# EAGLE library part 5VLX110FF676 (library xilinx_spartan3_virtex4_and_5)
Xilinx FPGA
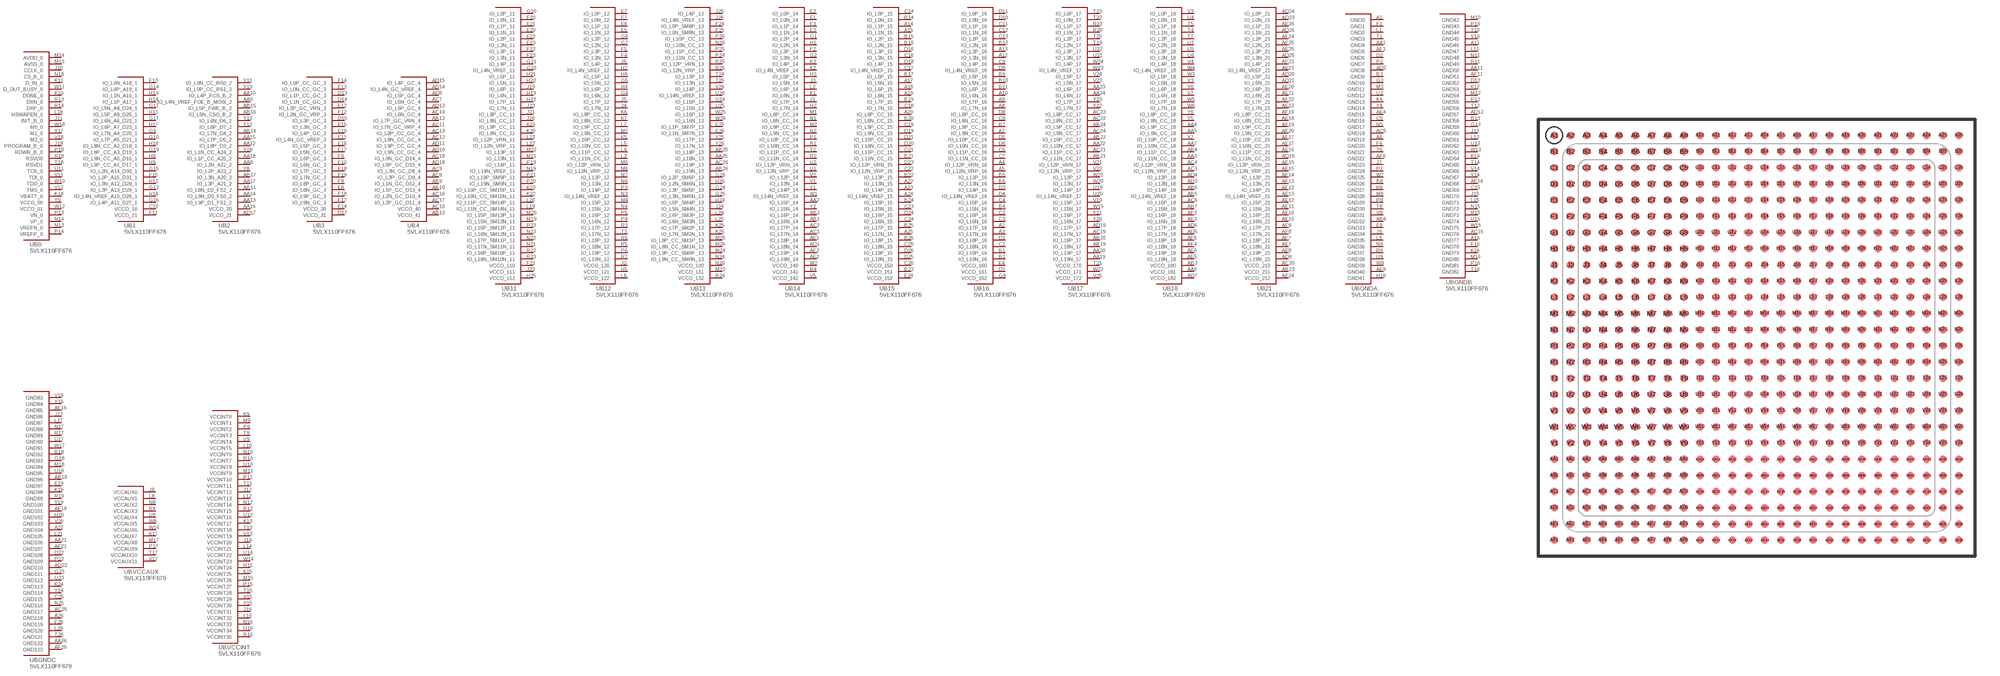
[diagram p98: symbol with the pads of FF676; footprint FF676]

Designator prefix U; gates B0=5VLX110FF676_0 B1=5VLX110FF676_1 B2=5VLX110FF676_2 B3=5VLX110FF676_3 B4=5VLX110FF676_4 B11=5VLX110FF676_11 B12=5VLX110FF676_12 B13=5VLX110FF676_13 B14=5VLX110FF676_14 B15=5VLX110FF676_15 B16=5VLX110FF676_16 B17=5VLX110FF676_17 B18=5VLX110FF676_18 B21=5VLX110FF676_21 BGNDA=5VLX110FF676_GNDA BGNDB=5VLX110FF676_GNDB BGNDC=5VLX110FF676_GNDC BVCCAUX=5VLX110FF676_VCCAUX BVCCINT=5VLX110FF676_VCCINT

## 5VLX110FF676  [FF676]
A1  BGNDA:GND0  pas
A2  B16:IO_L17P_16
A3  B16:IO_L17N_16
A4  B16:IO_L12P_VRN_16
A5  B16:IO_L12N_VRP_16
A6  BGNDA:GND19  pas
A7  B16:IO_L9N_CC_16
A8  B16:IO_L7N_16
A9  B16:IO_L7P_16
A10  B16:IO_L6N_16
A11  BGNDB:GND46  pas
A12  B16:IO_L3N_16
A13  B16:IO_L3P_16
A14  B15:IO_L1P_15
A15  B15:IO_L1N_15
A16  BGNDB:GND77  pas
A17  B15:IO_L5N_15
A18  B15:IO_L6P_15
A19  B15:IO_L6N_15
A20  B15:IO_L8P_CC_15
A21  BGNDC:GND104  pas
A22  B15:IO_L13N_15
A23  B15:IO_L14P_15
A24  B15:IO_L14N_VREF_15
A25  B15:IO_L17N_15
A26  BGNDC:GND118  pas
AA1  BGNDA:GND4  pas
AA2  B14:IO_L15P_14
AA3  B18:IO_L11N_CC_18
AA4  B18:IO_L9P_CC_18
AA5  B18:IO_L9N_CC_18
AA6  B18:VCCO_181  pas
AA7  B18:IO_L10N_CC_18
AA8  B2:IO_L2N_A22_2
AA9  B2:IO_L4N_VREF_FOE_B_MOSI_2
AA10  B2:IO_L4P_FCS_B_2
AA11  BGNDB:GND50  pas
AA12  B2:IO_L8P_D3_2
AA13  B2:IO_L9P_D1_FS1_2
AA14  B2:IO_L9N_D0_FS0_2
AA15  B2:IO_L7P_D5_2
AA16  B2:VCCO_20  pas
AA17  B2:IO_L3P_A21_2
AA18  B2:IO_L1P_CC_A25_2
AA19  B17:IO_L19N_17
AA20  B17:IO_L19P_17
AA21  BGNDC:GND106  pas
AA22  B17:IO_L10N_CC_17
AA23  B17:IO_L6P_17
AA24  B17:IO_L6N_17
AA25  B13:IO_L18N_13
AA26  BGNDC:GND122  pas
AB1  B14:IO_L16N_14
AB2  B14:IO_L16P_14
AB3  B18:VCCO_180  pas
AB4  B18:IO_L11P_CC_18
AB5  B18:IO_L14N_VREF_18
AB6  B18:IO_L14P_18
AB7  B18:IO_L15N_18
AB8  BGNDA:GND32  pas
AB9  B4:IO_L1N_GC_D12_4
AB10  B4:IO_L1P_GC_D13_4
AB11  B2:IO_L8N_D2_FS2_2
AB12  B4:IO_L7P_GC_VRN_4
AB13  B4:VCCO_41  pas
AB14  B2:IO_L7N_D4_2
AB15  B2:IO_L5P_FWE_B_2
AB16  B2:IO_L5N_CSO_B_2
AB17  B2:IO_L3N_A20_2
AB18  BGNDC:GND96  pas
AB19  B17:IO_L18N_17
AB20  B17:IO_L18P_17
AB21  B17:IO_L11N_CC_17
AB22  B17:IO_L10P_CC_17
AB23  B21:VCCO_211  pas
AB24  B17:IO_L9P_CC_17
AB25  B13:IO_L18P_13
AB26  B13:IO_L19N_13
AC1  B14:IO_L17N_14
AC2  B14:IO_L17P_14
AC3  B18:IO_L12N_VRP_18
AC4  B18:IO_L12P_VRN_18
AC5  BGNDA:GND18  pas
AC6  B18:IO_L15P_18
AC7  B4:IO_L5N_GC_4
AC8  B4:IO_L3P_GC_D9_4
AC9  B4:IO_L3N_GC_D8_4
AC10  B4:VCCO_40  pas
AC11  B4:IO_L7N_GC_VRP_4
AC12  B4:IO_L8N_CC_GC_4
AC13  B4:IO_L8P_CC_GC_4
AC14  B4:IO_L6N_GC_4
AC15  BGNDB:GND76  pas
AC16  B4:IO_L2N_GC_D10_4
AC17  B4:IO_L2P_GC_D11_4
AC18  B4:IO_L0N_GC_D14_4
AC19  B17:IO_L17N_17
AC20  B21:VCCO_210  pas
AC21  B17:IO_L11P_CC_17
AC22  B17:IO_L8N_CC_17
AC23  B17:IO_L8P_CC_17
AC24  B17:IO_L9N_CC_17
AC25  BGNDC:GND117  pas
AC26  B13:IO_L19P_13
AD1  B14:IO_L18N_14
AD2  BGNDA:GND8  pas
AD3  B18:IO_L13N_18
AD4  B18:IO_L13P_18
AD5  B18:IO_L17N_18
AD6  B18:IO_L17P_18
AD7  B18:VCCO_182  pas
AD8  B4:IO_L5P_GC_4
AD9  B21:IO_L19N_21
AD10  B4:IO_L9N_CC_GC_4
AD11  B4:IO_L9P_CC_GC_4
AD12  BGNDB:GND57  pas
AD13  B4:IO_L6P_GC_4
AD14  B4:IO_L4N_GC_VREF_4
AD15  B4:IO_L4P_GC_4
AD16  B21:IO_L11N_CC_21
AD17  B2:VCCO_21  pas
AD18  B4:IO_L0P_GC_D15_4
AD19  B17:IO_L17P_17
AD20  B21:IO_L5P_21
AD21  B21:IO_L5N_21
AD22  BGNDC:GND110  pas
AD23  B21:IO_L0N_21
AD24  B21:IO_L0P_21
AD25  B21:IO_L3N_21
AD26  B21:IO_L1N_21
AE1  B14:IO_L18P_14
AE2  B14:IO_L19N_14
AE3  B18:IO_L16N_18
AE4  BGNDA:GND15  pas
AE5  B18:IO_L19N_18
AE6  B18:IO_L19P_18
AE7  B21:IO_L18N_21
AE8  B21:IO_L19P_21
AE9  BGNDA:GND40  pas
AE10  B21:IO_L16N_21
AE11  B21:IO_L15N_21
AE12  B21:IO_L15P_21
AE13  B21:IO_L14N_VREF_21
AE14  BGNDB:GND68  pas
AE15  B21:IO_L12N_VRP_21
AE16  B21:IO_L11P_CC_21
AE17  B21:IO_L10N_CC_21
AE18  B21:IO_L8N_CC_21
AE19  BGNDC:GND101  pas
AE20  B21:IO_L6P_21
AE21  B21:IO_L6N_21
AE22  B21:IO_L7N_21
AE23  B21:IO_L4N_VREF_21
AE24  B21:VCCO_212  pas
AE25  B21:IO_L3P_21
AE26  B21:IO_L1P_21
AF1  BGNDA:GND5  pas
AF2  B14:IO_L19P_14
AF3  B18:IO_L16P_18
AF4  B18:IO_L18N_18
AF5  B18:IO_L18P_18
AF6  BGNDA:GND22  pas
AF7  B21:IO_L18P_21
AF8  B21:IO_L17N_21
AF9  B21:IO_L17P_21
AF10  B21:IO_L16P_21
AF11  BGNDB:GND51  pas
AF12  B21:IO_L14P_21
AF13  B21:IO_L13N_21
AF14  B21:IO_L13P_21
AF15  B21:IO_L12P_VRN_21
AF16  BGNDC:GND85  pas
AF17  B21:IO_L10P_CC_21
AF18  B21:IO_L8P_CC_21
AF19  B21:IO_L9P_CC_21
AF20  B21:IO_L9N_CC_21
AF21  BGNDC:GND107  pas
AF22  B21:IO_L7P_21
AF23  B21:IO_L4P_21
AF24  B21:IO_L2P_21
AF25  B21:IO_L2N_21
AF26  BGNDC:GND123  pas
B1  B16:IO_L19P_16
B2  B16:IO_L19N_16
B3  BGNDA:GND9  pas
B4  B16:IO_L15N_16
B5  B16:IO_L13P_16
B6  B16:IO_L13N_16
B7  B16:IO_L9P_CC_16
B8  BGNDA:GND26  pas
B9  B16:IO_L5P_16
B10  B16:IO_L5N_16
B11  B16:IO_L6P_16
B12  B16:IO_L2N_16
B13  BGNDB:GND58  pas
B14  B15:IO_L0N_15
B15  B15:IO_L2P_15
B16  B15:IO_L2N_15
B17  B15:IO_L5P_15
B18  BGNDC:GND92  pas
B19  B15:IO_L7P_15
B20  B15:IO_L8N_CC_15
B21  B15:IO_L11N_CC_15
B22  B15:IO_L13P_15
B23  B15:VCCO_151  pas
B24  B15:IO_L15P_15
B25  B15:IO_L17P_15
B26  B15:IO_L18P_15
C1  B16:IO_L18N_16
C2  B16:IO_L16P_16
C3  B16:IO_L16N_16
C4  B16:IO_L15P_16
C5  BGNDA:GND16  pas
C6  B16:IO_L11P_CC_16
C7  B16:IO_L11N_CC_16
C8  B16:IO_L8N_CC_16
C9  B16:IO_L4P_16
C10  B1:VCCO_10  pas
C11  B16:IO_L1P_16
C12  B16:IO_L1N_16
C13  B16:IO_L2P_16
C14  B15:IO_L0P_15
C15  BGNDB:GND69  pas
C16  B15:IO_L3N_15
C17  B15:IO_L4N_VREF_15
C18  B15:IO_L7N_15
C19  B15:IO_L9P_CC_15
C20  B15:VCCO_150  pas
C21  B15:IO_L11P_CC_15
C22  B15:IO_L12N_VRP_15
C23  B15:IO_L15N_15
C24  B15:IO_L16N_15
C25  BGNDC:GND115  pas
C26  B15:IO_L18N_15
D1  B16:IO_L18P_16
D2  BGNDA:GND6  pas
D3  B16:IO_L14P_16
D4  B16:IO_L14N_VREF_16
D5  B16:IO_L10P_CC_16
D6  B16:IO_L10N_CC_16
D7  B16:VCCO_161  pas
D8  B16:IO_L8P_CC_16
D9  B16:IO_L4N_VREF_16
D10  B16:IO_L0N_16
D11  B16:IO_L0P_16
D12  BGNDB:GND52  pas
D13  B3:IO_L1P_CC_GC_3
D14  B3:IO_L1N_CC_GC_3
D15  B3:IO_L3P_GC_3
D16  B15:IO_L3P_15
D17  B3:VCCO_31  pas
D18  B15:IO_L4P_15
D19  B15:IO_L9N_CC_15
D20  B15:IO_L10N_CC_15
D21  B15:IO_L10P_CC_15
D22  BGNDC:GND108  pas
D23  B15:IO_L12P_VRN_15
D24  B15:IO_L16P_15
D25  B15:IO_L19N_15
D26  B15:IO_L19P_15
E1  B14:IO_L0N_14
E2  B14:IO_L0P_14
E3  B14:IO_L1N_14
E4  B16:VCCO_160  pas
E5  B12:IO_L1N_12
E6  B12:IO_L1P_12
E7  B12:IO_L0P_12
E8  B3:IO_L8N_GC_3
E9  BGNDA:GND33  pas
E10  B3:IO_L4P_GC_3
E11  B3:IO_L4N_GC_VREF_3
E12  B3:IO_L2P_GC_VRN_3
E13  B3:IO_L0N_CC_GC_3
E14  B3:VCCO_30  pas
E15  B3:IO_L3N_GC_3
E16  B3:IO_L5P_GC_3
E17  B3:IO_L5N_GC_3
E18  B3:IO_L7P_GC_3
E19  BGNDC:GND97  pas
E20  B11:IO_L1N_11
E21  B11:IO_L1P_11
E22  B11:IO_L2P_11
E23  B11:IO_L2N_11
E24  B15:VCCO_152  pas
E25  B13:IO_L1P_SM7P_13
E26  B13:IO_L1N_SM7N_13
F1  BGNDA:GND1  pas
F2  B14:IO_L3P_14
F3  B14:IO_L1P_14
F4  B12:IO_L3N_12
F5  B12:IO_L3P_12
F6  BGNDA:GND20  pas
F7  B12:IO_L0N_12
F8  B3:IO_L8P_GC_3
F9  B3:IO_L6P_GC_3
F10  B3:IO_L6N_GC_3
F11  B1:VCCO_11  pas
F12  B3:IO_L2N_GC_VRP_3
F13  B1:IO_L0N_A18_1
F14  B3:IO_L0P_CC_GC_3
F15  B1:IO_L2P_A15_D31_1
F16  BGNDB:GND78  pas
F17  B3:IO_L9N_GC_3
F18  B3:IO_L9P_GC_3
F19  B3:IO_L7N_GC_3
F20  B11:IO_L0N_11
F21  B11:VCCO_110  pas
F22  B11:IO_L3P_11
F23  B11:IO_L3N_11
F24  B13:IO_L0P_SM8P_13
F25  B13:IO_L0N_SM8N_13
F26  BGNDC:GND119  pas
G1  B14:IO_L2P_14
G2  B14:IO_L3N_14
G3  BGNDA:GND10  pas
G4  B12:IO_L6N_12
G5  B12:IO_L5N_12
G6  B12:IO_L2P_12
G7  B12:IO_L2N_12
G8  B16:VCCO_162  pas
G9  B1:IO_L7N_A4_D20_1
G10  B1:IO_L7P_A5_D21_1
G11  B1:IO_L5N_A8_D24_1
G12  B1:IO_L3P_A13_D29_1
G13  BGNDB:GND59  pas
G14  B1:IO_L0P_A19_1
G15  B1:IO_L2N_A14_D30_1
G16  B1:IO_L4P_A11_D27_1
G17  B1:IO_L6N_A6_D22_1
G18  BGNDC:GND93  pas
G19  B1:IO_L8P_CC_A3_D19_1
G20  B11:IO_L0P_11
G21  B11:IO_L4P_11
G22  B11:IO_L4N_VREF_11
G23  BGNDC:GND111  pas
G24  B13:IO_L3P_SM5P_13
G25  B13:IO_L3N_SM5N_13
G26  B13:IO_L2P_SM6P_13
H1  B14:IO_L2N_14
H2  B14:IO_L7N_14
H3  B14:IO_L5P_14
H4  B12:IO_L6P_12
H5  B12:VCCO_121  pas
H6  B12:IO_L5P_12
H7  B12:IO_L4N_VREF_12
H8  B1:IO_L9N_CC_A0_D16_1
H9  B1:IO_L9P_CC_A1_D17_1
H10  BGNDA:GND41  pas
H11  B1:IO_L5P_A9_D25_1
H12  B1:IO_L3N_A12_D28_1
H13  B1:IO_L1N_A16_1
H14  B1:IO_L1P_A17_1
H15  BVCCINT:VCCINT24  pas
H16  B1:IO_L4N_VREF_A10_D26_1
H17  B1:IO_L6P_A7_D23_1
H18  B1:IO_L8N_CC_A2_D18_1
H19  B11:IO_L6N_11
H20  BGNDC:GND102  pas
H21  B11:IO_L5P_11
H22  B11:IO_L5N_11
H23  B11:IO_L7P_11
H24  B13:IO_L5P_SM4P_13
H25  B11:VCCO_112  pas
H26  B13:IO_L2N_SM6N_13
J1  B14:IO_L7P_14
J2  B12:VCCO_120  pas
J3  B14:IO_L5N_14
J4  B12:IO_L7N_12
J5  B12:IO_L7P_12
J6  B12:IO_L4P_12
J7  BGNDA:GND23  pas
J8  BVCCAUX:VCCAUX0  pas
J9  BGNDA:GND34  pas
J10  B0:CCLK_0
J11  B0:INIT_B_0
J12  BVCCINT:VCCINT12  pas
J13  BGNDB:GND60  pas
J14  BVCCINT:VCCINT20  pas
J15  BGNDB:GND70  pas
J16  BVCCINT:VCCINT31  pas
J17  BGNDC:GND86  pas
J18  B0:PROGRAM_B_0
J19  B11:IO_L6P_11
J20  B11:IO_L8N_CC_11
J21  B11:IO_L8P_CC_11
J22  B11:VCCO_111  pas
J23  B11:IO_L7N_11
J24  B13:IO_L5N_SM4N_13
J25  B13:IO_L4P_13
J26  B13:IO_L4N_VREF_13
K1  B14:IO_L6N_14
K2  B14:IO_L4N_VREF_14
K3  B14:IO_L4P_14
K4  BGNDA:GND13  pas
K5  B12:IO_L10P_CC_12
K6  B12:IO_L8P_CC_12
K7  B12:IO_L8N_CC_12
K8  BGNDA:GND27  pas
K9  BVCCINT:VCCINT0  pas
K10  B0:DONE_0
K11  B0:D_IN_0
K12  BGNDB:GND53  pas
K13  BVCCINT:VCCINT17  pas
K14  BGNDB:GND64  pas
K15  BVCCINT:VCCINT25  pas
K16  BGNDB:GND79  pas
K17  BVCCAUX:VCCAUX7  pas
K18  B0:VBATT_0
K19  BGNDC:GND98  pas
K20  B11:IO_L9N_CC_11
K21  B11:IO_L9P_CC_11
K22  B11:IO_L10N_CC_SM15N_11
K23  B11:IO_L10P_CC_SM15P_11
K24  BGNDC:GND113  pas
K25  B13:IO_L7P_SM2P_13
K26  B13:IO_L7N_SM2N_13
L1  BGNDA:GND2  pas
L2  B14:IO_L6P_14
L3  B12:IO_L11N_CC_12
L4  B12:IO_L11P_CC_12
L5  B12:IO_L10N_CC_12
L6  B12:VCCO_122  pas
L7  B12:IO_L9P_CC_12
L8  BVCCAUX:VCCAUX1  pas
L9  BGNDA:GND35  pas
L10  BVCCINT:VCCINT5  pas
L11  BGNDB:GND47  pas
L12  BVCCINT:VCCINT13  pas
L13  BGNDB:GND61  pas
L14  BVCCINT:VCCINT21  pas
L15  BGNDB:GND71  pas
L16  BVCCINT:VCCINT32  pas
L17  BGNDC:GND87  pas
L18  B0:HSWAPEN_0
L19  B11:IO_L11N_CC_SM14N_11
L20  B11:IO_L11P_CC_SM14P_11
L21  BGNDC:GND105  pas
L22  B11:IO_L12N_VRP_11
L23  B11:IO_L12P_VRN_11
L24  B13:IO_L6P_SM3P_13
L25  B13:IO_L6N_SM3N_13
L26  BGNDC:GND120  pas
M1  B14:IO_L8P_CC_14
M2  B14:IO_L9P_CC_14
M3  BGNDA:GND11  pas
M4  B12:IO_L15P_12
M5  B12:IO_L12P_VRN_12
M6  B12:IO_L12N_VRP_12
M7  B12:IO_L9N_CC_12
M8  BGNDA:GND28  pas
M9  BVCCINT:VCCINT1  pas
M10  BGNDB:GND42  pas
M11  BVCCINT:VCCINT9  pas
M12  BGNDB:GND54  pas
M13  B0:AVSS_0
M14  B0:AVDD_0
M15  BVCCINT:VCCINT26  pas
M16  BGNDB:GND80  pas
M17  BVCCAUX:VCCAUX8  pas
M18  BGNDC:GND94  pas
M19  B11:IO_L15N_SM13N_11
M20  B11:IO_L15P_SM13P_11
M21  B11:IO_L13N_11
M22  B11:IO_L13P_11
M23  B13:VCCO_131  pas
M24  B13:IO_L9P_CC_SM0P_13
M25  B13:IO_L8P_CC_SM1P_13
M26  B13:IO_L8N_CC_SM1N_13
N1  B14:IO_L8N_CC_14
N2  B14:IO_L9N_CC_14
N3  B12:IO_L14N_VREF_12
N4  B12:IO_L15N_12
N5  BGNDA:GND17  pas
N6  B12:IO_L13N_12
N7  B12:IO_L13P_12
N8  BVCCAUX:VCCAUX2  pas
N9  BGNDA:GND36  pas
N10  BVCCINT:VCCINT6  pas
N11  BGNDB:GND48  pas
N12  BVCCINT:VCCINT14  pas
N13  B0:VREFN_0
N14  B0:VP_0
N15  BGNDB:GND72  pas
N16  BVCCINT:VCCINT33  pas
N17  BGNDC:GND88  pas
N18  B0:CS_B_0
N19  B11:IO_L14N_VREF_11
N20  B13:VCCO_130  pas
N21  B11:IO_L17N_SM11N_11
N22  B11:IO_L17P_SM11P_11
N23  B11:IO_L16N_SM12N_11
N24  B13:IO_L9N_CC_SM0N_13
N25  BGNDC:GND116  pas
N26  B13:IO_L10N_CC_13
P1  B14:IO_L10P_CC_14
P2  BGNDA:GND7  pas
P3  B12:IO_L14P_12
P4  B12:IO_L16N_12
P5  B12:IO_L16P_12
P6  B12:IO_L19P_12
P7  BGNDA:GND24  pas
P8  BGNDA:GND29  pas
P9  BVCCINT:VCCINT2  pas
P10  BGNDB:GND43  pas
P11  BVCCINT:VCCINT10  pas
P12  BGNDB:GND55  pas
P13  B0:VN_0
P14  B0:VREFP_0
P15  BVCCINT:VCCINT27  pas
P16  BGNDB:GND81  pas
P17  BVCCAUX:VCCAUX9  pas
P18  B0:RDWR_B_0
P19  B11:IO_L14P_11
P20  B11:IO_L19N_SM9N_11
P21  B11:IO_L19P_SM9P_11
P22  BGNDC:GND109  pas
P23  B11:IO_L16P_SM12P_11
P24  B13:IO_L11N_CC_13
P25  B13:IO_L11P_CC_13
P26  B13:IO_L10P_CC_13
R1  B14:IO_L10N_CC_14
R2  B14:IO_L11N_CC_14
R3  B12:IO_L17P_12
R4  B14:VCCO_141  pas
R5  B12:IO_L18N_12
R6  B12:IO_L18P_12
R7  B12:IO_L19N_12
R8  BVCCAUX:VCCAUX3  pas
R9  BGNDA:GND37  pas
R10  BVCCINT:VCCINT7  pas
R11  BGNDB:GND49  pas
R12  BVCCINT:VCCINT15  pas
R13  B0:DXN_0
R14  B0:DXP_0
R15  BGNDB:GND73  pas
R16  BVCCINT:VCCINT35  pas
R17  BGNDC:GND89  pas
R18  B0:RSVD0
R19  BGNDC:GND99  pas
R20  B17:IO_L1N_17
R21  B17:IO_L1P_17
R22  B11:IO_L18P_SM10P_11
R23  B11:IO_L18N_SM10N_11
R24  B13:VCCO_132  pas
R25  B13:IO_L12P_VRN_13
R26  B13:IO_L12N_VRP_13
T1  BGNDA:GND3  pas
T2  B14:IO_L11P_CC_14
T3  B12:IO_L17N_12
T4  B18:IO_L1N_18
T5  B18:IO_L1P_18
T6  BGNDA:GND21  pas
T7  B18:IO_L2P_18
T8  BGNDA:GND30  pas
T9  BVCCINT:VCCINT3  pas
T10  BGNDB:GND44  pas
T11  BVCCINT:VCCINT11  pas
T12  BGNDB:GND56  pas
T13  BVCCINT:VCCINT18  pas
T14  BGNDB:GND65  pas
T15  BVCCINT:VCCINT28  pas
T16  BGNDB:GND82  pas
T17  BVCCAUX:VCCAUX10  pas
T18  B0:RSVD1
T19  B17:IO_L2N_17
T20  B17:IO_L2P_17
T21  B17:VCCO_170  pas
T22  B17:IO_L0N_17
T23  B17:IO_L0P_17
T24  B13:IO_L13P_13
T25  B13:IO_L13N_13
T26  BGNDC:GND121  pas
U1  B14:IO_L12N_VRP_14
U2  B14:IO_L12P_VRN_14
U3  BGNDA:GND12  pas
U4  B18:IO_L0N_18
U5  B18:IO_L3P_18
U6  B18:IO_L3N_18
U7  B18:IO_L2N_18
U8  BVCCAUX:VCCAUX4  pas
U9  BGNDA:GND38  pas
U10  BVCCINT:VCCINT8  pas
U11  B0:TCK_0
U12  BVCCINT:VCCINT16  pas
U13  BGNDB:GND62  pas
U14  BVCCINT:VCCINT22  pas
U15  BGNDB:GND74  pas
U16  BVCCINT:VCCINT34  pas
U17  BGNDC:GND90  pas
U18  BGNDC:GND95  pas
U19  B17:IO_L14P_17
U20  B17:IO_L14N_VREF_17
U21  B17:IO_L3N_17
U22  B17:IO_L3P_17
U23  BGNDC:GND112  pas
U24  B13:IO_L15P_13
U25  B13:IO_L15N_13
U26  B13:IO_L14N_VREF_13
V1  B14:IO_L13N_14
V2  B14:IO_L13P_14
V3  B18:IO_L0P_18
V4  B18:IO_L4P_18
V5  B14:VCCO_142  pas
V6  B18:IO_L6P_18
V7  B18:IO_L6N_18
V8  BGNDA:GND31  pas
V9  BVCCINT:VCCINT4  pas
V10  BGNDB:GND45  pas
V11  B0:TDI_0
V12  B0:TMS_0
V13  BVCCINT:VCCINT19  pas
V14  BGNDB:GND66  pas
V15  BVCCINT:VCCINT29  pas
V16  BGNDC:GND83  pas
V17  BVCCAUX:VCCAUX11  pas
V18  B0:M2_0
V19  B17:IO_L15P_17
V20  BGNDC:GND103  pas
V21  B17:IO_L12P_VRN_17
V22  B17:IO_L12N_VRP_17
V23  B17:IO_L5N_17
V24  B17:IO_L5P_17
V25  B17:VCCO_172  pas
V26  B13:IO_L14P_13
W1  B14:IO_L14N_VREF_14
W2  B14:VCCO_140  pas
W3  B18:IO_L5P_18
W4  B18:IO_L4N_VREF_18
W5  B18:IO_L7P_18
W6  B18:IO_L7N_18
W7  BGNDA:GND25  pas
W8  BVCCAUX:VCCAUX5  pas
W9  BGNDA:GND39  pas
W10  B0:TDO_0
W11  B0:D_OUT_BUSY_0
W12  B0:VCCO_01  pas
W13  BGNDB:GND63  pas
W14  BVCCINT:VCCINT23  pas
W15  BGNDB:GND75  pas
W16  BVCCAUX:VCCAUX6  pas
W17  BGNDC:GND91  pas
W18  B0:M0_0
W19  B17:IO_L15N_17
W20  B17:IO_L13N_17
W21  B17:IO_L13P_17
W22  B17:VCCO_171  pas
W23  B17:IO_L4N_VREF_17
W24  B17:IO_L4P_17
W25  B13:IO_L16P_13
W26  B13:IO_L16N_13
Y1  B14:IO_L14P_14
Y2  B14:IO_L15N_14
Y3  B18:IO_L5N_18
Y4  BGNDA:GND14  pas
Y5  B18:IO_L8N_CC_18
Y6  B18:IO_L8P_CC_18
Y7  B18:IO_L10P_CC_18
Y8  B2:IO_L2P_A23_2
Y9  B0:VCCO_00  pas
Y10  B2:IO_L0P_CC_RS1_2
Y11  B2:IO_L0N_CC_RS0_2
Y12  B2:IO_L6P_D7_2
Y13  B2:IO_L6N_D6_2
Y14  BGNDB:GND67  pas
Y15  BVCCINT:VCCINT30  pas
Y16  BGNDC:GND84  pas
Y17  B0:M1_0
Y18  B2:IO_L1N_CC_A24_2
Y19  BGNDC:GND100  pas
Y20  B17:IO_L16N_17
Y21  B17:IO_L16P_17
Y22  B17:IO_L7N_17
Y23  B17:IO_L7P_17
Y24  BGNDC:GND114  pas
Y25  B13:IO_L17P_13
Y26  B13:IO_L17N_13

## Footprint FF676 (pad centres in mm)
smd 0.45 x 0.45: A1 -12.5,12.5; A2 -11.5,12.5; A3 -10.5,12.5; A4 -9.5,12.5; A5 -8.5,12.5; A6 -7.5,12.5; A7 -6.5,12.5; A8 -5.5,12.5; A9 -4.5,12.5; A10 -3.5,12.5; A11 -2.5,12.5; A12 -1.5,12.5; A13 -0.5,12.5; A14 0.5,12.5; A15 1.5,12.5; A16 2.5,12.5; A17 3.5,12.5; A18 4.5,12.5; A19 5.5,12.5; A20 6.5,12.5; A21 7.5,12.5; A22 8.5,12.5; A23 9.5,12.5; A24 10.5,12.5; A25 11.5,12.5; A26 12.5,12.5; AA1 -12.5,-7.5; AA2 -11.5,-7.5; AA3 -10.5,-7.5; AA4 -9.5,-7.5; AA5 -8.5,-7.5; AA6 -7.5,-7.5; AA7 -6.5,-7.5; AA8 -5.5,-7.5; AA9 -4.5,-7.5; AA10 -3.5,-7.5; AA11 -2.5,-7.5; AA12 -1.5,-7.5; AA13 -0.5,-7.5; AA14 0.5,-7.5; AA15 1.5,-7.5; AA16 2.5,-7.5; AA17 3.5,-7.5; AA18 4.5,-7.5; AA19 5.5,-7.5; AA20 6.5,-7.5; AA21 7.5,-7.5; AA22 8.5,-7.5; AA23 9.5,-7.5; AA24 10.5,-7.5; AA25 11.5,-7.5; AA26 12.5,-7.5; AB1 -12.5,-8.5; AB2 -11.5,-8.5; AB3 -10.5,-8.5; AB4 -9.5,-8.5; AB5 -8.5,-8.5; AB6 -7.5,-8.5; AB7 -6.5,-8.5; AB8 -5.5,-8.5; AB9 -4.5,-8.5; AB10 -3.5,-8.5; AB11 -2.5,-8.5; AB12 -1.5,-8.5; AB13 -0.5,-8.5; AB14 0.5,-8.5; AB15 1.5,-8.5; AB16 2.5,-8.5; AB17 3.5,-8.5; AB18 4.5,-8.5; AB19 5.5,-8.5; AB20 6.5,-8.5; AB21 7.5,-8.5; AB22 8.5,-8.5; AB23 9.5,-8.5; AB24 10.5,-8.5; AB25 11.5,-8.5; AB26 12.5,-8.5; AC1 -12.5,-9.5; AC2 -11.5,-9.5; AC3 -10.5,-9.5; AC4 -9.5,-9.5; AC5 -8.5,-9.5; AC6 -7.5,-9.5; AC7 -6.5,-9.5; AC8 -5.5,-9.5; AC9 -4.5,-9.5; AC10 -3.5,-9.5; AC11 -2.5,-9.5; AC12 -1.5,-9.5; AC13 -0.5,-9.5; AC14 0.5,-9.5; AC15 1.5,-9.5; AC16 2.5,-9.5; AC17 3.5,-9.5; AC18 4.5,-9.5; AC19 5.5,-9.5; AC20 6.5,-9.5; AC21 7.5,-9.5; AC22 8.5,-9.5; AC23 9.5,-9.5; AC24 10.5,-9.5; AC25 11.5,-9.5; AC26 12.5,-9.5; AD1 -12.5,-10.5; AD2 -11.5,-10.5; AD3 -10.5,-10.5; AD4 -9.5,-10.5; AD5 -8.5,-10.5; AD6 -7.5,-10.5; AD7 -6.5,-10.5; AD8 -5.5,-10.5; AD9 -4.5,-10.5; AD10 -3.5,-10.5; AD11 -2.5,-10.5; AD12 -1.5,-10.5; AD13 -0.5,-10.5; AD14 0.5,-10.5; AD15 1.5,-10.5; AD16 2.5,-10.5; AD17 3.5,-10.5; AD18 4.5,-10.5; AD19 5.5,-10.5; AD20 6.5,-10.5; AD21 7.5,-10.5; AD22 8.5,-10.5; AD23 9.5,-10.5; AD24 10.5,-10.5; AD25 11.5,-10.5; AD26 12.5,-10.5; AE1 -12.5,-11.5; AE2 -11.5,-11.5; AE3 -10.5,-11.5; AE4 -9.5,-11.5; AE5 -8.5,-11.5; AE6 -7.5,-11.5; AE7 -6.5,-11.5; AE8 -5.5,-11.5; AE9 -4.5,-11.5; AE10 -3.5,-11.5; AE11 -2.5,-11.5; AE12 -1.5,-11.5; AE13 -0.5,-11.5; AE14 0.5,-11.5; AE15 1.5,-11.5; AE16 2.5,-11.5; AE17 3.5,-11.5; AE18 4.5,-11.5; AE19 5.5,-11.5; AE20 6.5,-11.5; AE21 7.5,-11.5; AE22 8.5,-11.5; AE23 9.5,-11.5; AE24 10.5,-11.5; AE25 11.5,-11.5; AE26 12.5,-11.5; AF1 -12.5,-12.5; AF2 -11.5,-12.5; AF3 -10.5,-12.5; AF4 -9.5,-12.5; AF5 -8.5,-12.5; AF6 -7.5,-12.5; AF7 -6.5,-12.5; AF8 -5.5,-12.5; AF9 -4.5,-12.5; AF10 -3.5,-12.5; AF11 -2.5,-12.5; AF12 -1.5,-12.5; AF13 -0.5,-12.5; AF14 0.5,-12.5; AF15 1.5,-12.5; AF16 2.5,-12.5; AF17 3.5,-12.5; AF18 4.5,-12.5; AF19 5.5,-12.5; AF20 6.5,-12.5; AF21 7.5,-12.5; AF22 8.5,-12.5; AF23 9.5,-12.5; AF24 10.5,-12.5; AF25 11.5,-12.5; AF26 12.5,-12.5; B1 -12.5,11.5; B2 -11.5,11.5; B3 -10.5,11.5; B4 -9.5,11.5; B5 -8.5,11.5; B6 -7.5,11.5; B7 -6.5,11.5; B8 -5.5,11.5; B9 -4.5,11.5; B10 -3.5,11.5; B11 -2.5,11.5; B12 -1.5,11.5; B13 -0.5,11.5; B14 0.5,11.5; B15 1.5,11.5; B16 2.5,11.5; B17 3.5,11.5; B18 4.5,11.5; B19 5.5,11.5; B20 6.5,11.5; B21 7.5,11.5; B22 8.5,11.5; B23 9.5,11.5; B24 10.5,11.5; B25 11.5,11.5; B26 12.5,11.5; C1 -12.5,10.5; C2 -11.5,10.5; C3 -10.5,10.5; C4 -9.5,10.5; C5 -8.5,10.5; C6 -7.5,10.5; C7 -6.5,10.5; C8 -5.5,10.5; C9 -4.5,10.5; C10 -3.5,10.5; C11 -2.5,10.5; C12 -1.5,10.5; C13 -0.5,10.5; C14 0.5,10.5; C15 1.5,10.5; C16 2.5,10.5; C17 3.5,10.5; C18 4.5,10.5; C19 5.5,10.5; C20 6.5,10.5; C21 7.5,10.5; C22 8.5,10.5; C23 9.5,10.5; C24 10.5,10.5; C25 11.5,10.5; C26 12.5,10.5; D1 -12.5,9.5; D2 -11.5,9.5; D3 -10.5,9.5; D4 -9.5,9.5; D5 -8.5,9.5; D6 -7.5,9.5; D7 -6.5,9.5; D8 -5.5,9.5; D9 -4.5,9.5; D10 -3.5,9.5; D11 -2.5,9.5; D12 -1.5,9.5; D13 -0.5,9.5; D14 0.5,9.5; D15 1.5,9.5; D16 2.5,9.5; D17 3.5,9.5; D18 4.5,9.5; D19 5.5,9.5; D20 6.5,9.5; D21 7.5,9.5; D22 8.5,9.5; D23 9.5,9.5; D24 10.5,9.5; D25 11.5,9.5; D26 12.5,9.5; E1 -12.5,8.5; E2 -11.5,8.5; E3 -10.5,8.5; E4 -9.5,8.5; E5 -8.5,8.5; E6 -7.5,8.5; E7 -6.5,8.5; E8 -5.5,8.5; E9 -4.5,8.5; E10 -3.5,8.5; E11 -2.5,8.5; E12 -1.5,8.5; E13 -0.5,8.5; E14 0.5,8.5; E15 1.5,8.5; E16 2.5,8.5; E17 3.5,8.5; E18 4.5,8.5; E19 5.5,8.5; E20 6.5,8.5; E21 7.5,8.5; E22 8.5,8.5; E23 9.5,8.5; E24 10.5,8.5; E25 11.5,8.5; E26 12.5,8.5; F1 -12.5,7.5; F2 -11.5,7.5; F3 -10.5,7.5; F4 -9.5,7.5; F5 -8.5,7.5; F6 -7.5,7.5; F7 -6.5,7.5; F8 -5.5,7.5; F9 -4.5,7.5; F10 -3.5,7.5; F11 -2.5,7.5; F12 -1.5,7.5; F13 -0.5,7.5; F14 0.5,7.5; F15 1.5,7.5; F16 2.5,7.5; F17 3.5,7.5; F18 4.5,7.5; F19 5.5,7.5; F20 6.5,7.5; F21 7.5,7.5; F22 8.5,7.5; F23 9.5,7.5; F24 10.5,7.5; F25 11.5,7.5; F26 12.5,7.5; G1 -12.5,6.5; G2 -11.5,6.5; G3 -10.5,6.5; G4 -9.5,6.5; G5 -8.5,6.5; G6 -7.5,6.5; G7 -6.5,6.5; G8 -5.5,6.5; G9 -4.5,6.5; G10 -3.5,6.5; G11 -2.5,6.5; G12 -1.5,6.5; G13 -0.5,6.5; G14 0.5,6.5; G15 1.5,6.5; G16 2.5,6.5; G17 3.5,6.5; G18 4.5,6.5; G19 5.5,6.5; G20 6.5,6.5; G21 7.5,6.5; G22 8.5,6.5; G23 9.5,6.5; G24 10.5,6.5; G25 11.5,6.5; G26 12.5,6.5; H1 -12.5,5.5; H2 -11.5,5.5; H3 -10.5,5.5; H4 -9.5,5.5; H5 -8.5,5.5; H6 -7.5,5.5; H7 -6.5,5.5; H8 -5.5,5.5; H9 -4.5,5.5; H10 -3.5,5.5; H11 -2.5,5.5; H12 -1.5,5.5; H13 -0.5,5.5; H14 0.5,5.5; H15 1.5,5.5; H16 2.5,5.5; H17 3.5,5.5; H18 4.5,5.5; H19 5.5,5.5; H20 6.5,5.5; H21 7.5,5.5; H22 8.5,5.5; H23 9.5,5.5; H24 10.5,5.5; H25 11.5,5.5; H26 12.5,5.5; J1 -12.5,4.5; J2 -11.5,4.5; J3 -10.5,4.5; J4 -9.5,4.5; J5 -8.5,4.5; J6 -7.5,4.5; J7 -6.5,4.5; J8 -5.5,4.5; J9 -4.5,4.5; J10 -3.5,4.5; J11 -2.5,4.5; J12 -1.5,4.5; J13 -0.5,4.5; J14 0.5,4.5; J15 1.5,4.5; J16 2.5,4.5; J17 3.5,4.5; J18 4.5,4.5; J19 5.5,4.5; J20 6.5,4.5; J21 7.5,4.5; J22 8.5,4.5; J23 9.5,4.5; J24 10.5,4.5; J25 11.5,4.5; J26 12.5,4.5; K1 -12.5,3.5; K2 -11.5,3.5; K3 -10.5,3.5; K4 -9.5,3.5; K5 -8.5,3.5; K6 -7.5,3.5; K7 -6.5,3.5; K8 -5.5,3.5; K9 -4.5,3.5; K10 -3.5,3.5; K11 -2.5,3.5; K12 -1.5,3.5; K13 -0.5,3.5; K14 0.5,3.5; K15 1.5,3.5; K16 2.5,3.5; K17 3.5,3.5; K18 4.5,3.5; K19 5.5,3.5; K20 6.5,3.5; K21 7.5,3.5; K22 8.5,3.5; K23 9.5,3.5; K24 10.5,3.5; K25 11.5,3.5; K26 12.5,3.5; L1 -12.5,2.5; L2 -11.5,2.5; L3 -10.5,2.5; L4 -9.5,2.5; L5 -8.5,2.5; L6 -7.5,2.5; L7 -6.5,2.5; L8 -5.5,2.5; L9 -4.5,2.5; L10 -3.5,2.5; L11 -2.5,2.5; L12 -1.5,2.5; L13 -0.5,2.5; L14 0.5,2.5; L15 1.5,2.5; L16 2.5,2.5; L17 3.5,2.5; L18 4.5,2.5; L19 5.5,2.5; L20 6.5,2.5; L21 7.5,2.5; L22 8.5,2.5; L23 9.5,2.5; L24 10.5,2.5; L25 11.5,2.5; L26 12.5,2.5; M1 -12.5,1.5; M2 -11.5,1.5; M3 -10.5,1.5; M4 -9.5,1.5; M5 -8.5,1.5; M6 -7.5,1.5; M7 -6.5,1.5; M8 -5.5,1.5; M9 -4.5,1.5; M10 -3.5,1.5; M11 -2.5,1.5; M12 -1.5,1.5; M13 -0.5,1.5; M14 0.5,1.5; M15 1.5,1.5; M16 2.5,1.5; M17 3.5,1.5; M18 4.5,1.5; M19 5.5,1.5; M20 6.5,1.5; M21 7.5,1.5; M22 8.5,1.5; M23 9.5,1.5; M24 10.5,1.5; M25 11.5,1.5; M26 12.5,1.5; N1 -12.5,0.5; N2 -11.5,0.5; N3 -10.5,0.5; N4 -9.5,0.5; N5 -8.5,0.5; N6 -7.5,0.5; N7 -6.5,0.5; N8 -5.5,0.5; N9 -4.5,0.5; N10 -3.5,0.5; N11 -2.5,0.5; N12 -1.5,0.5; N13 -0.5,0.5; N14 0.5,0.5; N15 1.5,0.5; N16 2.5,0.5; N17 3.5,0.5; N18 4.5,0.5; N19 5.5,0.5; N20 6.5,0.5; N21 7.5,0.5; N22 8.5,0.5; N23 9.5,0.5; N24 10.5,0.5; N25 11.5,0.5; N26 12.5,0.5; P1 -12.5,-0.5; P2 -11.5,-0.5; P3 -10.5,-0.5; P4 -9.5,-0.5; P5 -8.5,-0.5; P6 -7.5,-0.5; P7 -6.5,-0.5; P8 -5.5,-0.5; P9 -4.5,-0.5; P10 -3.5,-0.5; P11 -2.5,-0.5; P12 -1.5,-0.5; P13 -0.5,-0.5; P14 0.5,-0.5; P15 1.5,-0.5; P16 2.5,-0.5; P17 3.5,-0.5; P18 4.5,-0.5; P19 5.5,-0.5; P20 6.5,-0.5; P21 7.5,-0.5; P22 8.5,-0.5; P23 9.5,-0.5; P24 10.5,-0.5; P25 11.5,-0.5; P26 12.5,-0.5; R1 -12.5,-1.5; R2 -11.5,-1.5; R3 -10.5,-1.5; R4 -9.5,-1.5; R5 -8.5,-1.5; R6 -7.5,-1.5; R7 -6.5,-1.5; R8 -5.5,-1.5; R9 -4.5,-1.5; R10 -3.5,-1.5; R11 -2.5,-1.5; R12 -1.5,-1.5; R13 -0.5,-1.5; R14 0.5,-1.5; R15 1.5,-1.5; R16 2.5,-1.5; R17 3.5,-1.5; R18 4.5,-1.5; R19 5.5,-1.5; R20 6.5,-1.5; R21 7.5,-1.5; R22 8.5,-1.5; R23 9.5,-1.5; R24 10.5,-1.5; R25 11.5,-1.5; R26 12.5,-1.5; T1 -12.5,-2.5; T2 -11.5,-2.5; T3 -10.5,-2.5; T4 -9.5,-2.5; T5 -8.5,-2.5; T6 -7.5,-2.5; T7 -6.5,-2.5; T8 -5.5,-2.5; T9 -4.5,-2.5; T10 -3.5,-2.5; T11 -2.5,-2.5; T12 -1.5,-2.5; T13 -0.5,-2.5; T14 0.5,-2.5; T15 1.5,-2.5; T16 2.5,-2.5; T17 3.5,-2.5; T18 4.5,-2.5; T19 5.5,-2.5; T20 6.5,-2.5; T21 7.5,-2.5; T22 8.5,-2.5; T23 9.5,-2.5; T24 10.5,-2.5; T25 11.5,-2.5; T26 12.5,-2.5; U1 -12.5,-3.5; U2 -11.5,-3.5; U3 -10.5,-3.5; U4 -9.5,-3.5; U5 -8.5,-3.5; U6 -7.5,-3.5; U7 -6.5,-3.5; U8 -5.5,-3.5; U9 -4.5,-3.5; U10 -3.5,-3.5; U11 -2.5,-3.5; U12 -1.5,-3.5; U13 -0.5,-3.5; U14 0.5,-3.5; U15 1.5,-3.5; U16 2.5,-3.5; U17 3.5,-3.5; U18 4.5,-3.5; U19 5.5,-3.5; U20 6.5,-3.5; U21 7.5,-3.5; U22 8.5,-3.5; U23 9.5,-3.5; U24 10.5,-3.5; U25 11.5,-3.5; U26 12.5,-3.5; V1 -12.5,-4.5; V2 -11.5,-4.5; V3 -10.5,-4.5; V4 -9.5,-4.5; V5 -8.5,-4.5; V6 -7.5,-4.5; V7 -6.5,-4.5; V8 -5.5,-4.5; V9 -4.5,-4.5; V10 -3.5,-4.5; V11 -2.5,-4.5; V12 -1.5,-4.5; V13 -0.5,-4.5; V14 0.5,-4.5; V15 1.5,-4.5; V16 2.5,-4.5; V17 3.5,-4.5; V18 4.5,-4.5; V19 5.5,-4.5; V20 6.5,-4.5; V21 7.5,-4.5; V22 8.5,-4.5; V23 9.5,-4.5; V24 10.5,-4.5; V25 11.5,-4.5; V26 12.5,-4.5; W1 -12.5,-5.5; W2 -11.5,-5.5; W3 -10.5,-5.5; W4 -9.5,-5.5; W5 -8.5,-5.5; W6 -7.5,-5.5; W7 -6.5,-5.5; W8 -5.5,-5.5; W9 -4.5,-5.5; W10 -3.5,-5.5; W11 -2.5,-5.5; W12 -1.5,-5.5; W13 -0.5,-5.5; W14 0.5,-5.5; W15 1.5,-5.5; W16 2.5,-5.5; W17 3.5,-5.5; W18 4.5,-5.5; W19 5.5,-5.5; W20 6.5,-5.5; W21 7.5,-5.5; W22 8.5,-5.5; W23 9.5,-5.5; W24 10.5,-5.5; W25 11.5,-5.5; W26 12.5,-5.5; Y1 -12.5,-6.5; Y2 -11.5,-6.5; Y3 -10.5,-6.5; Y4 -9.5,-6.5; Y5 -8.5,-6.5; Y6 -7.5,-6.5; Y7 -6.5,-6.5; Y8 -5.5,-6.5; Y9 -4.5,-6.5; Y10 -3.5,-6.5; Y11 -2.5,-6.5; Y12 -1.5,-6.5; Y13 -0.5,-6.5; Y14 0.5,-6.5; Y15 1.5,-6.5; Y16 2.5,-6.5; Y17 3.5,-6.5; Y18 4.5,-6.5; Y19 5.5,-6.5; Y20 6.5,-6.5; Y21 7.5,-6.5; Y22 8.5,-6.5; Y23 9.5,-6.5; Y24 10.5,-6.5; Y25 11.5,-6.5; Y26 12.5,-6.5